# Altium footprint library GPS.PcbLib: 2 footprints
Each footprint in its own frame and in the unit in brackets; x right, y up, seen from the top. Pads: shape width x height; smd on the part's side, far side on the other; paste and mask are expansions set on the pad; w line width, h text height; cw(c..) or ccw(c..) is an arc to the next point about the centre after c.
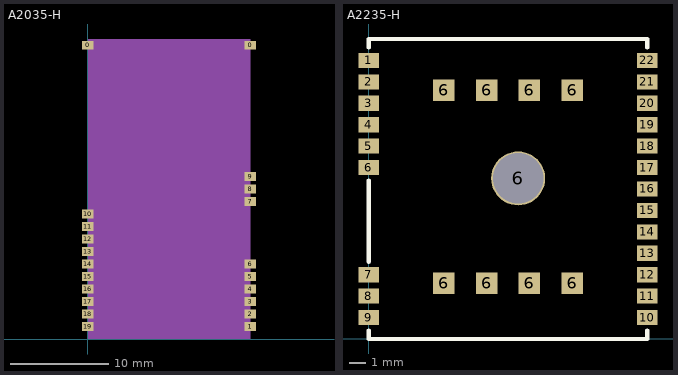
[diagram p0: the footprints below, top view; thin cyan lines are the x and y axes]

## A2035-H [mm] "PCB Libriary for GPS A2035-H"
height 30.48
pads (21):
  rect 1.2x0.9 smd: 0(0,29.845) 0(16.51,29.845) 1(16.51,1.27) 2(16.51,2.54) 3(16.51,3.81) 4(16.51,5.08) 5(16.51,6.35) 6(16.51,7.62) 7(16.51,13.97) 8(16.51,15.24) 9(16.51,16.51) 10(0,12.7) 11(0,11.43) 12(0,10.16) 13(0,8.89) 14(0,7.62) 15(0,6.35) 16(0,5.08) 17(0,3.81) 18(0,2.54) 19(0,1.27)
Mechanical 1:
  rectangle: 0,0 16.51,30.48

## A2235-H [mm] "PCB Librairy for GPS A2235-H"
height 17.78
pads (31):
  rect 1.2x0.9 smd: 1(0,16.51) 2(0,15.24) 3(0,13.97) 4(0,12.7) 5(0,11.43) 6(0,10.16) 7(0,3.81) 8(0,2.54) 9(0,1.27) 10(16.51,1.27) 11(16.51,2.54) 12(16.51,3.81) 13(16.51,5.08) 14(16.51,6.35) 15(16.51,7.62) 16(16.51,8.89) 17(16.51,10.16) 18(16.51,11.43) 19(16.51,12.7) 20(16.51,13.97) 21(16.51,15.24) 22(16.51,16.51)
  rect 1.27x1.27 smd: 6(4.445,3.302) 6(4.445,14.732) 6(6.985,3.302) 6(6.985,14.732) 6(9.525,3.302) 6(9.525,14.732) 6(12.065,3.302) 6(12.065,14.732)
  round 3.2 hole 3 unplated: 6(8.86,9.52)
Top Overlay:
  lines w0.254: 0,0.508 0,0 16.51,0 16.51,0.508 ; 0,4.572 0,9.398 ; 0,17.272 0,17.78 16.51,17.78 16.51,17.272